# Altium schematic symbol library tlv9051idckr.SchLib: 1 symbol
Pins are listed as number, name and electrical type; pins without a type are passive.

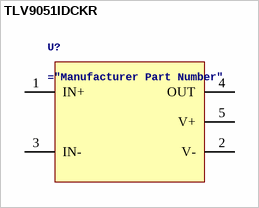
[diagram p0: symbol TLV9051IDCKR]

## TLV9051IDCKR
designator U?
Standard (General Purpose) Amplifier 1 Circuit Rail-to-Rail SC-70-5
pins: 1 IN+, 2 V-, 3 IN-, 4 OUT, 5 V+